# Altium schematic symbol library VREF.SchLib: 1 symbol
Pins are listed as number, name and electrical type; pins without a type are passive.

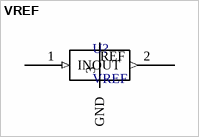
[diagram p0: symbol VREF]

## VREF
designator U?
Voltage reference symbol
pins: 1 IN (in), 2 OUT (out), 3 GND (power)
text: REF